# Altium footprint library 001-Resistance.PcbLib: 10 footprints
Each footprint in its own frame and in the unit in brackets; x right, y up, seen from the top. Pads: shape width x height; smd on the part's side, far side on the other; paste and mask are expansions set on the pad; w line width, h text height; cw(c..) or ccw(c..) is an arc to the next point about the centre after c.
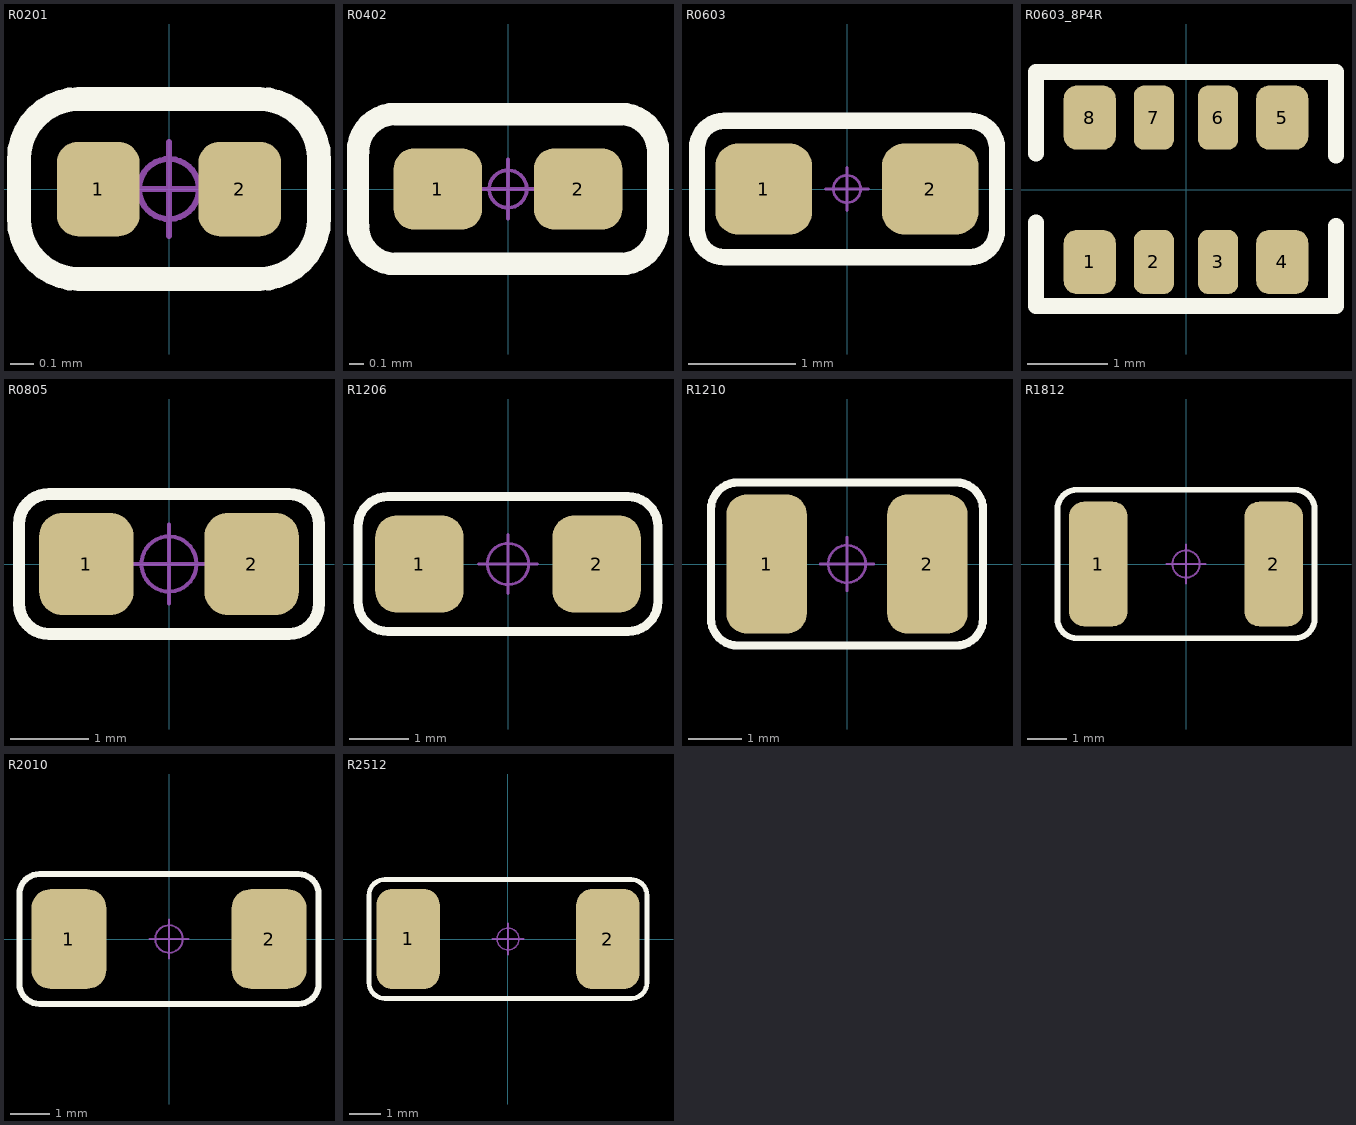
[diagram p0: the footprints below, top view; thin cyan lines are the x and y axes]

## R0201 [mm] "0201-1/20W-贴片电阻"
pads (2):
  rrect50% 0.35x0.4 smd: 1(-0.3,0) 2(0.3,0)
Top Overlay:
  lines w0.102: -0.635,-0.127 ccw(c-0.381,-0.127) -0.381,-0.381 0.381,-0.381 ccw(c0.381,-0.127) 0.635,-0.127 0.635,0.127 ccw(c0.381,0.127) 0.381,0.381 -0.381,0.381 ccw(c-0.381,0.127) -0.635,0.127 -0.635,-0.127
Mechanical 15:
  circle w0.025: c0,0 r0.127
  lines w0.025: -0.2,0 0.2,0 ; 0,-0.2 0,0.2
3D body "R0201.step": height 0.24, standoff 0, extent -0.3,-0.151 0.3,0.15

## R0402 [mm] "0402-1/16W-贴片电阻"
height 0.35
pads (2):
  rrect50% 0.6x0.55 smd: 1(-0.475,0) 2(0.475,0)
Top Overlay:
  lines w0.152: -1.016,-0.254 ccw(c-0.762,-0.254) -0.762,-0.508 0.762,-0.508 ccw(c0.762,-0.254) 1.016,-0.254 1.016,0.254 ccw(c0.762,0.254) 0.762,0.508 -0.762,0.508 ccw(c-0.762,0.254) -1.016,0.254 -1.016,-0.254
Mechanical 15:
  circle w0.025: c0,0 r0.127
  lines w0.025: -0.2,0 0.2,0 ; 0,-0.2 0,0.2
3D body "R0402.step": height 0.36, standoff 0, extent -0.5,-0.251 0.5,0.25

## R0603 [mm] "0603-1/10W-贴片电阻"
height 0.45
pads (2):
  rrect50% 0.9x0.85 smd: 1(-0.775,0) 2(0.775,0)
Top Overlay:
  lines w0.152: -1.397,-0.381 ccw(c-1.143,-0.381) -1.143,-0.635 1.143,-0.635 ccw(c1.143,-0.381) 1.397,-0.381 1.397,0.381 ccw(c1.143,0.381) 1.143,0.635 -1.143,0.635 ccw(c-1.143,0.381) -1.397,0.381 -1.397,-0.381
Mechanical 15:
  circle w0.025: c0,0 r0.127
  lines w0.025: -0.2,0 0.2,0 ; 0,-0.2 0,0.2
3D body "R0603.step": height 0.45, standoff 0, extent -0.81,-0.405 0.81,0.405

## R0603_8P4R [mm] "R0603_8P4R-1x4贴片排阻-3.2mm*1.6mm*0.5mm"
height 0.5
pads (8):
  rrect50% 0.65x0.8 smd: 1(-1.2,-0.9) 4(1.2,-0.9) 5(1.2,0.9) 8(-1.2,0.9)
  rrect50% 0.5x0.8 smd: 2(-0.4,-0.9) 3(0.4,-0.9) 6(0.4,0.9) 7(-0.4,0.9)
Top Overlay:
  lines w0.2: -1.87,-0.41 -1.87,-1.45 1.87,-1.45 1.87,-0.45 ; -1.87,0.45 -1.87,1.47 1.87,1.47 1.87,0.43
3D body "R0603_8P4R.step": height 0.5, standoff 0, extent -1.6,-0.8 1.601,0.8

## R0805 [mm] "0805-1/8W-贴片电阻"
height 0.55
pads (2):
  rrect50% 1.2x1.3 smd: 1(-1.05,0) 2(1.05,0)
Top Overlay:
  lines w0.152: -1.905,-0.508 ccw(c-1.524,-0.508) -1.524,-0.889 1.524,-0.889 ccw(c1.524,-0.508) 1.905,-0.508 1.905,0.508 ccw(c1.524,0.508) 1.524,0.889 -1.524,0.889 ccw(c-1.524,0.508) -1.905,0.508 -1.905,-0.508
Mechanical 15:
  circle w0.05: c0,0 r0.35
  lines w0.05: -0.5,0 0.5,0 ; 0,-0.5 0,0.5
3D body "R0805.step": height 0.61, standoff 0, extent -1,-0.651 1,0.65

## R1206 [mm] "1206-1/4W-贴片电阻"
pads (2):
  rrect50% 1.5x1.65 smd: 1(-1.5,0) 2(1.5,0)
Top Overlay:
  lines w0.152: -2.54,-0.635 ccw(c-2.032,-0.635) -2.032,-1.143 2.032,-1.143 ccw(c2.032,-0.635) 2.54,-0.635 2.54,0.635 ccw(c2.032,0.635) 2.032,1.143 -2.032,1.143 ccw(c-2.032,0.635) -2.54,0.635 -2.54,-0.635
Mechanical 15:
  circle w0.05: c0,0 r0.35
  lines w0.05: -0.5,0 0.5,0 ; 0,-0.5 0,0.5
3D body "R1206.step": height 0.56, standoff 0, extent -1.6,-0.801 1.6,0.8

## R1210 [mm] "1210-1/3W-贴片电阻"
pads (2):
  rrect50% 1.5x2.6 smd: 1(-1.5,0) 2(1.5,0)
Top Overlay:
  lines w0.152: -2.54,-1.016 ccw(c-2.032,-1.016) -2.032,-1.524 2.032,-1.524 ccw(c2.032,-1.016) 2.54,-1.016 2.54,1.016 ccw(c2.032,1.016) 2.032,1.524 -2.032,1.524 ccw(c-2.032,1.016) -2.54,1.016 -2.54,-1.016
Mechanical 15:
  circle w0.05: c0,0 r0.35
  lines w0.05: -0.5,0 0.5,0 ; 0,-0.5 0,0.5
3D body "R1210.step": height 0.55, standoff 0, extent -1.55,-1.301 1.55,1.3

## R1812 [mm] "1812-1/2W-贴片电阻"
pads (2):
  rrect50% 1.5x3.2 smd: 1(-2.25,0) 2(2.25,0)
Top Overlay:
  lines w0.152: -3.302,-1.397 ccw(c-2.794,-1.397) -2.794,-1.905 2.794,-1.905 ccw(c2.794,-1.397) 3.302,-1.397 3.302,1.397 ccw(c2.794,1.397) 2.794,1.905 -2.794,1.905 ccw(c-2.794,1.397) -3.302,1.397 -3.302,-1.397
Mechanical 15:
  circle w0.05: c0,0 r0.35
  lines w0.05: -0.5,0 0.5,0 ; 0,-0.5 0,0.5
3D body "R1812.step": height 0.61, standoff 0, extent -2.25,-1.6 2.25,1.6

## R2010 [mm] "2010-3/4W-贴片电阻"
pads (2):
  rrect50% 1.905x2.54 smd: 1(-2.55,0) 2(2.55,0)
Top Overlay:
  lines w0.152: -3.81,-1.143 ccw(c-3.302,-1.143) -3.302,-1.651 3.302,-1.651 ccw(c3.302,-1.143) 3.81,-1.143 3.81,1.143 ccw(c3.302,1.143) 3.302,1.651 -3.302,1.651 ccw(c-3.302,1.143) -3.81,1.143 -3.81,-1.143
Mechanical 15:
  circle w0.05: c0,0 r0.35
  lines w0.05: -0.5,0 0.5,0 ; 0,-0.5 0,0.5
3D body "R2010.step": height 0.61, standoff 0, extent -2.5,-1.25 2.5,1.25

## R2512 [mm] "2512-1W-贴片电阻"
pads (2):
  rrect50% 2.032x3.2 smd: 1(-3.2,0) 2(3.2,0)
Top Overlay:
  lines w0.152: -4.445,-1.397 ccw(c-3.937,-1.397) -3.937,-1.905 3.937,-1.905 ccw(c3.937,-1.397) 4.445,-1.397 4.445,1.397 ccw(c3.937,1.397) 3.937,1.905 -3.937,1.905 ccw(c-3.937,1.397) -4.445,1.397 -4.445,-1.397
Mechanical 15:
  circle w0.05: c0,0 r0.35
  lines w0.05: -0.5,0 0.5,0 ; 0,-0.5 0,0.5
3D body "R2512.step": height 0.61, standoff 0, extent -3.15,-1.6 3.15,1.6